# EAGLE library part AS5311 (library SKAARHOJ)
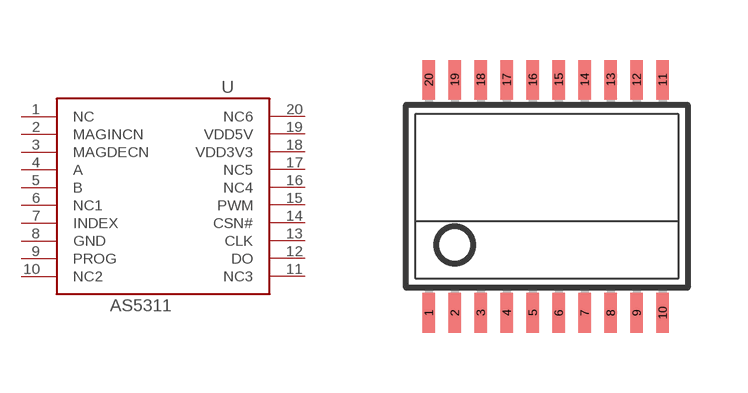
[diagram p41: symbol with the pads of TSSOP20_AMS; footprint TSSOP20_AMS]

Designator prefix -

## AS5311  [TSSOP20_AMS]
1  NC  nc
2  MAGINCN  out
3  MAGDECN  out
4  A  out
5  B  out
6  NC1  nc
7  INDEX  out
8  GND  pwr
9  PROG  in
10  NC2  nc
11  NC3  nc
12  DO  out
13  CLK  in
14  CSN#  in
15  PWM  out
16  NC4  nc
17  NC5  nc
18  VDD3V3  pwr
19  VDD5V  pwr
20  NC6  nc

## Footprint TSSOP20_AMS (pad centres in mm)
smd 0.305 x 0.991: 1 -2.925,-2.294; 2 -2.275,-2.294; 3 -1.625,-2.294; 4 -0.975,-2.294; 5 -0.325,-2.294; 6 0.325,-2.294; 7 0.975,-2.294; 8 1.625,-2.294; 9 2.275,-2.294; 10 2.925,-2.294; 11 2.925,3.542; 12 2.275,3.542; 13 1.625,3.542; 14 0.975,3.542; 15 0.325,3.542; 16 -0.325,3.542; 17 -0.975,3.542; 18 -1.625,3.542; 19 -2.275,3.542; 20 -2.925,3.542